# EAGLE library part LP3855_KTT_5 (library maholli)
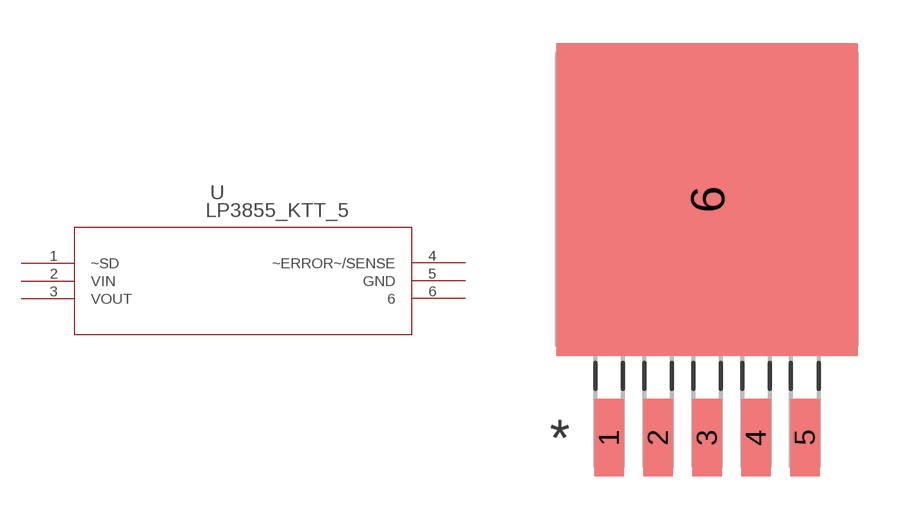
[diagram p9: symbol with the pads of TS5B; footprint TS5B]

Designator prefix U

## LP3855_KTT_5 (BASE_PN: LP3855; COMP: TypeLDO; LIBRARY: ReferenceLP3855ES; PARTNUMBER: LP3855ES18; PIN: Count5; SYMBOL: NameLP3855ES18; TYPE: LP3855ES1.8; VENDOR: NationalSemiconductor; VERSION: 1)  [TS5B]
1  ~SD  pas
2  VIN  in
3  VOUT  out
4  ~ERROR~/SENSE  pas
5  GND  pas
6  6  pas

## Footprint TS5B (pad centres in mm)
smd 1.016 x 2.692: 1 -3.404,-8.28; 2 -1.702,-8.28; 3 0,-8.28; 4 1.702,-8.28; 5 3.404,-8.28
smd 10.465 x 10.871: 6 0,0